# Altium schematic symbol library AQ1250-01ETG.SchLib: 1 symbol
Pins are listed as number, name and electrical type; pins without a type are passive.

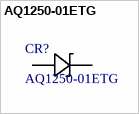
[diagram p0: symbol AQ1250-01ETG]

## AQ1250-01ETG
designator CR?
No Description Available; Manufacturer_Name: Littelfuse Inc; Copyright: Copyright (C) 2025 Ultra Librarian. All rights reserved.; Manufacturer_Part_Number: AQ1250-01ETG
footprint SOD882_LTF
pins: 1 ANODE, 2 CATHODE